# Altium footprint library sumo.PcbLib: 21 footprints (part 1 of 2)
Each footprint in its own frame and in the unit in brackets; x right, y up, seen from the top. Pads: shape width x height; smd on the part's side, far side on the other; paste and mask are expansions set on the pad; w line width, h text height; cw(c..) or ccw(c..) is an arc to the next point about the centre after c.
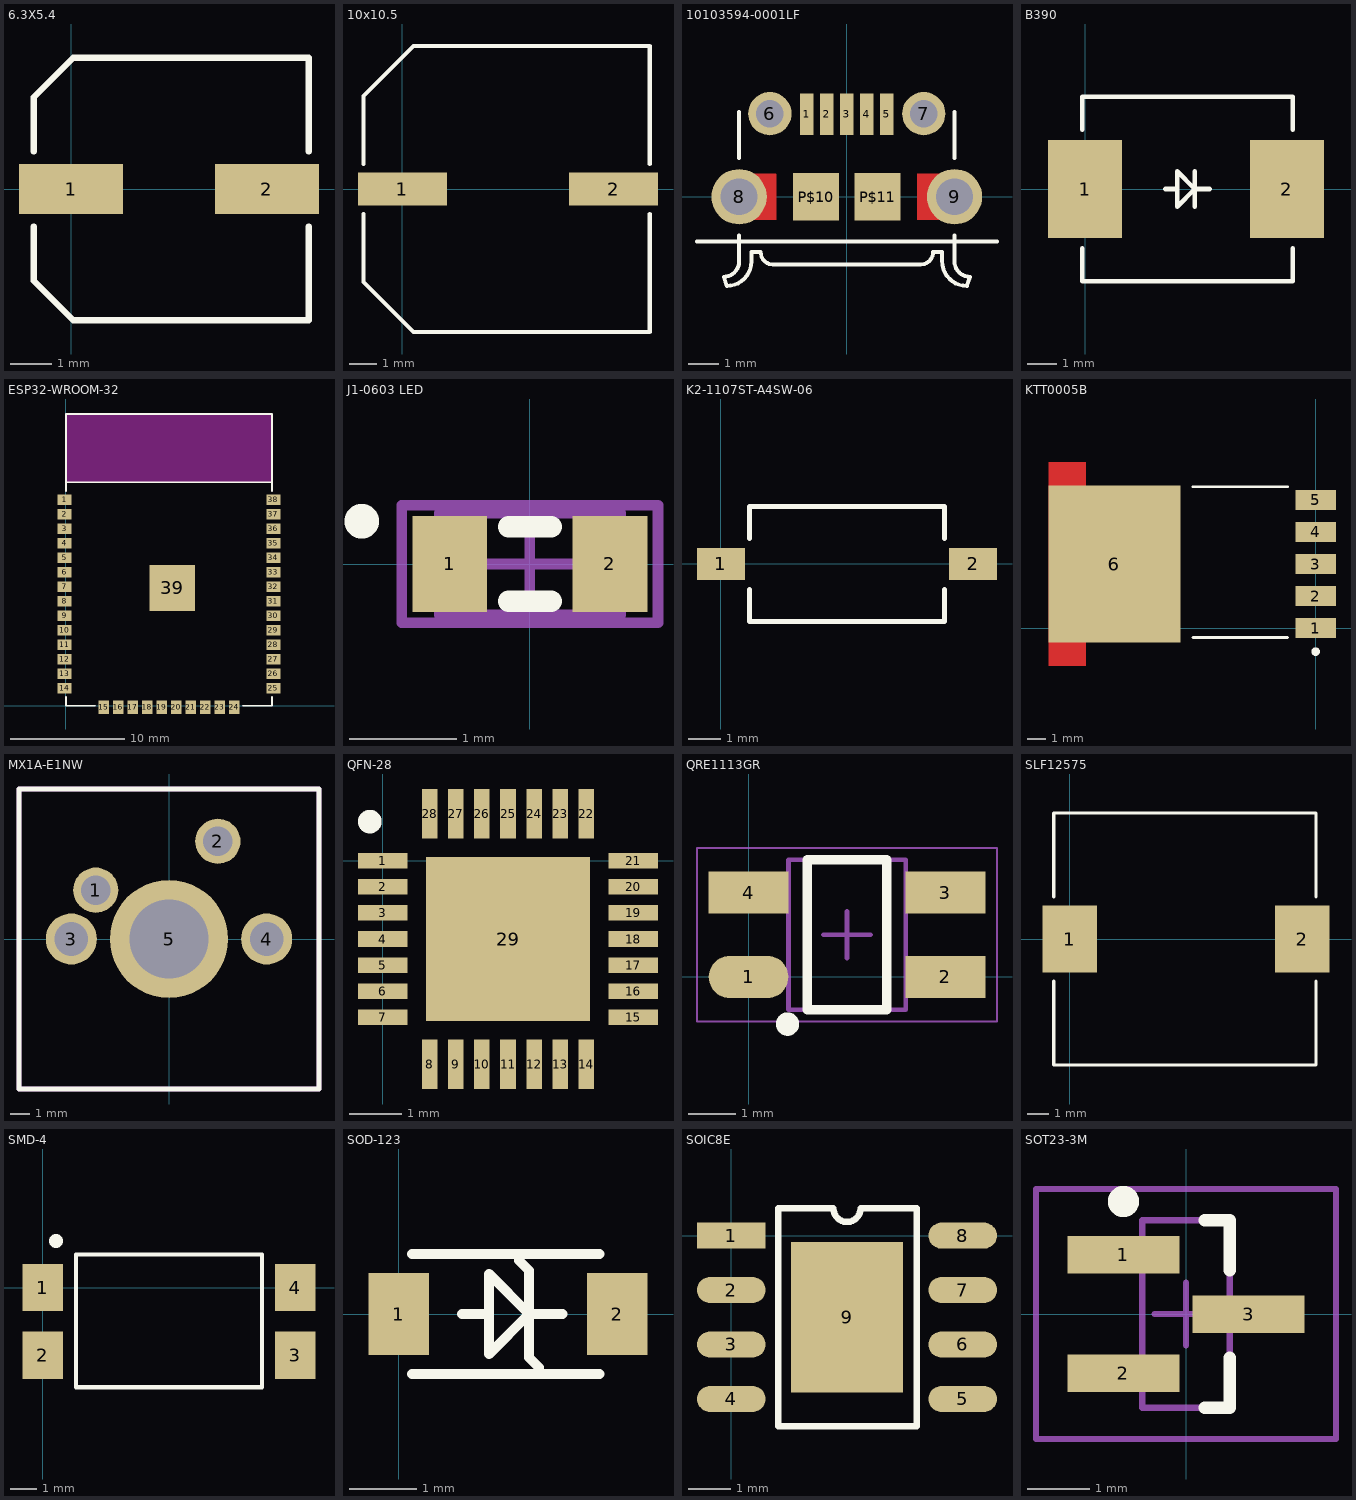
[diagram p0: the footprints below, top view; thin cyan lines are the x and y axes]

## 6.3X5.4 [mm] "SMD Aluminium Electrolytic Capacitor"
pads (2):
  rect 2.5x1.2 smd: 1(0,0) 2(4.7,0)
Top Overlay:
  lines w0.152: -0.9,-0.9 -0.9,-2.2 0.05,-3.15 5.7,-3.15 5.7,-0.9 ; -0.9,0.9 -0.9,2.2 0.05,3.15 5.7,3.15 5.7,0.9

## 10x10.5 [mm] "SMD Aluminium Electrolytic Capacitor"
pads (2):
  rect 3.2x1.2 smd: 1(0,0) 2(7.6,0)
Top Overlay:
  lines w0.152: -1.4,-0.9 -1.4,-3.35 0.4,-5.15 8.9,-5.15 8.9,-0.9 ; -1.4,0.9 -1.4,3.35 0.4,5.15 8.9,5.15 8.9,0.9

## 10103594-0001LF [mm] "Amphenol FCI Right Angle SMT Type B Version 2.0 Micro USB Connector Socket, 100 V ac, 1.8A"
pads (11):
  rect 0.45x1.35 smd: 1(-1.3,2.675) 2(-0.65,2.675) 3(0,2.675) 4(0.65,2.675) 5(1.3,2.675)
  round 1.408 hole 0.9: 6(-2.5,2.7) 7(2.5,2.7)
  round 1.8 hole 1.2: 8(-3.5,0) 9(3.5,0)
  rect 1.5x1.55 smd: P$10(-1,0) P$11(1,0)
Top Layer:
  rectangle: 2.286,-0.762 3.81,0.762
  rectangle: -3.81,-0.762 -2.286,0.762
Top Overlay:
  lines w0.127: -4.869,-1.45 4.881,-1.45 ; -3.5,-2.15 -3.5,-2.1 ; -3.5,-1.25 -3.5,-2.1 ; -3.5,1.25 -3.5,2.75 ; 2.2,-2.2 2.4,-2.2 ccw(c2.4,-1.8) 2.8,-1.8 3.1,-1.8 3.1,-2.1 ccw(c3.9,-2.1) 3.9,-2.9 4,-2.6 cw(c4,-2.1) 3.5,-2.1 ; 2.3,-2.2 -2.4,-2.2 cw(c-2.4,-1.8) -2.8,-1.8 -3.1,-1.8 -3.1,-2.1 cw(c-3.9,-2.1) -3.9,-2.9 -4,-2.6 ccw(c-4,-2.1) -3.5,-2.1 ; 3.5,1.25 3.5,2.75 ; 3.5,-2.1 3.5,-2.15 3.5,-1.25 3.5,-2.1

## B390 [mm] "3A 90V Schotkky Diode"
pads (2):
  rect 2.5x3.3 smd: 1(0,0) 2(6.8,0)
Top Overlay:
  lines w0.152: -0.1,-2 -0.1,-3.1 7,-3.1 7,-2 ; -0.1,2 -0.1,3.1 7,3.1 7,2 ; 2.7,0 3.1,0 ; 3.7,-0.6 3.7,0 ; 4.2,0 3.7,0 ; 3.1,0 3.1,-0.6 3.7,0 ; 3.1,0 3.1,0.6 3.7,0 ; 3.7,0 3.7,0.6 ; 3.7,0.6 3.7,0.6

## ESP32-WROOM-32 [mm] "http://evertdekker.com/?p=854"
pads (39):
  rect 1.2x0.9 smd: 1(-0.127,18.034) 2(-0.127,16.764) 3(-0.127,15.494) 4(-0.127,14.224) 5(-0.127,12.954) 6(-0.127,11.684) 7(-0.127,10.414) 8(-0.127,9.144) 9(-0.127,7.874) 10(-0.127,6.604) 11(-0.127,5.334) 12(-0.127,4.064) 13(-0.127,2.794) 14(-0.127,1.524) 25(18.161,1.524) 26(18.161,2.794) 27(18.161,4.064) 28(18.161,5.334) 29(18.161,6.604) 30(18.161,7.874) 31(18.161,9.144) 32(18.161,10.414) 33(18.161,11.684) 34(18.161,12.954) 35(18.161,14.224) 36(18.161,15.494) 37(18.161,16.764) 38(18.161,18.034)
  rect 0.9x1.2 smd: 15(3.302,-0.127) 16(4.57,-0.127) 17(5.84,-0.127) 18(7.11,-0.127) 19(8.38,-0.127) 20(9.65,-0.127) 21(10.92,-0.127) 22(12.19,-0.127) 23(13.46,-0.127) 24(14.73,-0.127)
  rect 4x4 smd: 39(9.3,10.3)
Top Overlay:
  lines w0.152: 0,0.762 0,0 2.54,0 ; 0,18.796 0,25.527 18.034,25.527 18.034,18.796 ; 0,19.558 18.034,19.558 ; 15.494,0 18.034,0 18.034,0.762
Keep-Out Layer:
  rectangle: 0,19.558 18.034,25.527

## J1-0603 LED [mm] "Chip Resistor, Body 1.6x0.8mm, IPC High Density"
height 0.9
pads (2):
  rect 0.7x0.9 smd: 1(-0.75,0) 2(0.75,0)
Top Overlay:
  circle w0.254: c-1.575,0.4 r0.035
  lines w0.2: -0.2,-0.35 0.2,-0.35 ; -0.2,0.35 0.2,0.35
Mechanical 13:
  lines w0.1: -0.85,-0.475 0.85,-0.475 0.85,0.475 -0.85,0.475 -0.85,-0.475
Mechanical 15:
  lines w0.1: -0.475,0 0.475,0 ; 0,-0.475 0,0.475 ; -1.2,-0.55 1.2,-0.55 1.2,0.55 -1.2,0.55 -1.2,-0.55
3D body: height 0.9, standoff 0, extent -0.85,-0.475 0.85,0.475

## K2-1107ST-A4SW-06 [mm] "SPST-NO SMD Tactile Switch"
pads (2):
  rect 1.5x1 smd: 1(0,0) 2(7.9,0)
Top Overlay:
  region: 1.1,-0.2
  lines w0.152: 0.9,-0.8 0.9,-1.8 7,-1.8 7,-0.8 ; 0.9,0.8 0.9,1.8 7,1.8 7,0.8

## KTT0005B [mm]
pads (6):
  rect 2.16x1.07 smd: 1(0,0) 2(0,1.7) 3(0,3.4) 4(0,5.1) 5(0,6.8)
  rect 6.99x8.33 smd: 6(-10.675,3.4)
Top Layer:
  rectangle: -14.175,-2 -12.175,8.8
Top Overlay:
  circle w0.254: c0,-1.25 r0.1
  lines w0.152: -6.5,-0.5 -1.5,-0.5 ; -6.5,7.5 -1.5,7.5

## MX1A-E1NW [mm]
pads (5):
  round 2.35 hole 1.55: 1(-3.81,2.54) 2(2.54,5.08)
  round 2.65 hole 1.75: 3(-5.08,0) 4(5.08,0)
  round 6.15 hole 4.1: 5(0,0)
Top Overlay:
  lines w0.254: -7.8,-7.8 -7.8,7.8 7.8,7.8 7.8,-7.8 -7.8,-7.8
Mechanical 15:
  lines w0.254: -7.8,-7.8 7.8,-7.8 7.8,7.8 -7.8,7.8 -7.8,-7.8

## QFN-28 [mm]
pads (29):
  rect 0.95x0.3 smd: 1(0,0) 2(0,-0.5) 3(0,-1) 4(0,-1.5) 5(0,-2) 6(0,-2.5) 7(0,-3) 15(4.8,-3) 16(4.8,-2.5) 17(4.8,-2) 18(4.8,-1.5) 19(4.8,-1) 20(4.8,-0.5) 21(4.8,0)
  rect 0.3x0.95 smd: 8(0.9,-3.9) 9(1.4,-3.9) 10(1.9,-3.9) 11(2.4,-3.9) 12(2.9,-3.9) 13(3.4,-3.9) 14(3.9,-3.9) 22(3.9,0.9) 23(3.4,0.9) 24(2.9,0.9) 25(2.4,0.9) 26(1.9,0.9) 27(1.4,0.9) 28(0.9,0.9)
  rect 3.15x3.15 smd: 29(2.4,-1.5)
Top Overlay:
  circle w0.254: c-0.25,0.75 r0.1

## QRE1113GR [mm] "SOP, 4-Leads, Body 3.40x2.70mm, Pitch 1.80mm, IPC Medium Density"
height 1.7
pads (4):
  oval 1.7x0.9 smd: 1(0,0)
  rect 1.7x0.9 smd: 2(4.2,0) 3(4.2,1.8) 4(0,1.8)
Top Overlay:
  circle w0.25: c0.83,-1.005 r0.125
  lines w0.2: 1.25,-0.7 2.95,-0.7 2.95,2.5 1.25,2.5 1.25,-0.7
Mechanical 13:
  lines w0.1: 0.85,-0.7 3.35,-0.7 3.35,2.5 0.85,2.5 0.85,-0.7
Mechanical 15:
  lines w0.05: -1.1,-0.95 5.3,-0.95 5.3,2.75 -1.1,2.75 -1.1,-0.95
  lines w0.1: 1.6,0.9 2.6,0.9 ; 2.1,0.4 2.1,1.4

## SLF12575 [mm] "Inductor"
pads (2):
  rect 2.6x3.2 smd: 1(0,0) 2(11.1,0)
Top Overlay:
  lines w0.152: -0.75,-2 -0.75,-6 11.75,-6 11.75,-2 ; -0.75,2 -0.75,6 11.75,6 11.75,2

## SMD-4 [mm]
pads (4):
  rect 1.52x1.78 smd: 1(0,0) 2(0,-2.54) 3(9.5,-2.54) 4(9.5,0)
Top Overlay:
  circle w0.5: c0.5,1.75 r0.01
  lines w0.152: 1.25,-3.75 8.25,-3.75 8.25,1.25 1.25,1.25 1.25,-3.75

## SOD-123 [mm] "Diode"
pads (2):
  rect 0.91x1.22 smd: 1(0,0) 2(3.27,0)
Top Overlay:
  lines w0.152: 0.2,-0.9 3,-0.9 ; 0.2,0.9 3,0.9 ; 0.95,0 1.35,0 ; 1.8,0.8 1.95,0.65 ; 2.1,-0.8 1.95,-0.65 ; 2.45,0 1.95,0 ; 1.35,0 1.35,0.6 1.95,0 ; 1.35,0 1.35,-0.6 1.95,0 ; 1.95,-0.65 1.95,-0.6 1.95,0 ; 1.95,-0.65 1.95,-0.65 ; 1.95,0 1.95,0.6 ; 1.95,0.6 1.95,0.65 ; 1.95,0.6 1.95,0.6 ; 1.95,0.65 1.95,0.65

## SOIC8E [mm]
pads (9):
  rect 1.6x0.61 smd: 1(0,0)
  oval 1.6x0.61 smd: 2(0,-1.27) 3(0,-2.54) 4(0,-3.81) 5(5.4,-3.81) 6(5.4,-2.54) 7(5.4,-1.27) 8(5.4,0)
  rect 2.62x3.51 smd: 9(2.7,-1.905)
Top Overlay:
  lines w0.152: 1.1,-4.445 1.1,0.635 2.382,0.635 ccw(c2.7,0.635) 3.017,0.635 4.325,0.635 4.325,-4.445 1.1,-4.445

## SOT23-3M [mm] "SOT23, 3-Leads, Body 2.9x1.3mm, Pitch 0.95mm, Lead Span 2.5mm, IPC Low Density"
height 1.1
pads (3):
  rect 1.8x0.6 smd: 1(-1,0.95) 2(-1,-0.95) 3(1,0)
Top Overlay:
  circle w0.25: c-1,1.8 r0.125
  lines w0.2: 0.3,-1.5 0.7,-1.5 0.7,-0.7 ; 0.3,1.5 0.7,1.5 0.7,0.7
Mechanical 13:
  lines w0.1: -0.7,-1.5 0.7,-1.5 0.7,1.5 -0.7,1.5 -0.7,-1.5
Mechanical 15:
  lines w0.1: -0.5,0 0.5,0 ; 0,-0.5 0,0.5 ; -2.4,-2 2.4,-2 2.4,2 -2.4,2 -2.4,-2
3D body: height 1.1, standoff 0, extent -0.7,-1.5 0.7,1.5